# EAGLE library part HCMS200X (library display-hp)
LED DISPLAY 4-character dot matrix
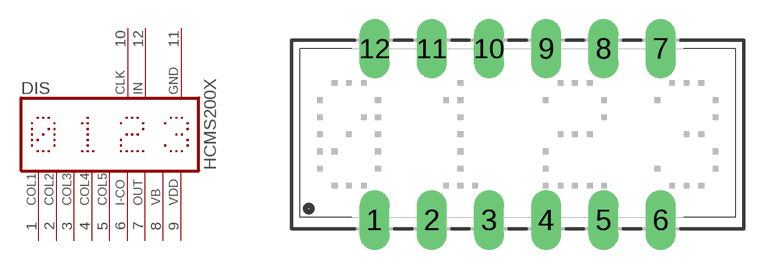
[diagram p22: symbol with the pads of HCMS200X; footprint HCMS200X]

Designator prefix DIS

## HCMS200X (OC_FARNELL: unknown; OC_NEWARK: unknown)  [HCMS200X]
1  COL1  in
2  COL2  in
3  COL3  in
4  COL4  in
5  COL5  in
6  I-CO  in
7  OUT  in
8  VB  in
9  VDD  pwr
10  CLK  in
11  GND  pwr
12  IN  in

## Footprint HCMS200X (pad centres in mm)
LED DISPLAY 5-mm 4 character dot matrix
drill 0.813 long: 1 -6.35,-3.81; 2 -3.81,-3.81; 3 -1.27,-3.81; 4 1.27,-3.81; 5 3.81,-3.81; 6 6.35,-3.81; 7 6.35,3.81; 8 3.81,3.81; 9 1.27,3.81; 10 -1.27,3.81; 11 -3.81,3.81; 12 -6.35,3.81